# Altium footprint library Pin28_PCB_Library.PcbLib: 29 footprints (part 2 of 2)
Each footprint in its own frame and in the unit in brackets; x right, y up, seen from the top. Pads: shape width x height; smd on the part's side, far side on the other; paste and mask are expansions set on the pad; w line width, h text height; cw(c..) or ccw(c..) is an arc to the next point about the centre after c.
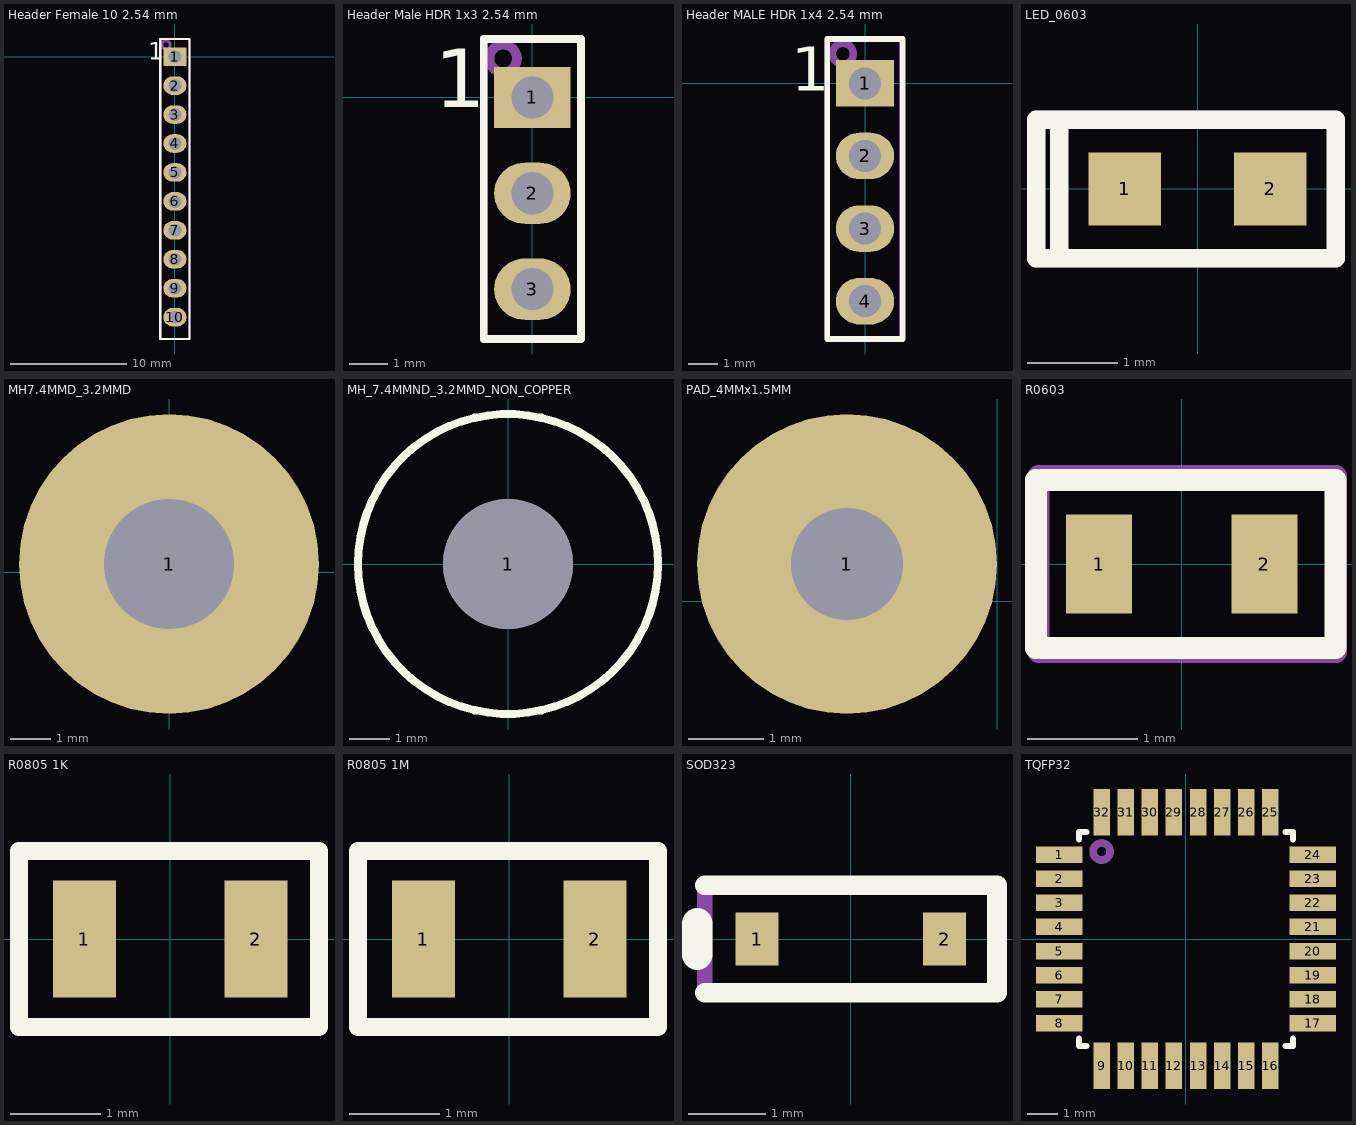
[diagram p1: the footprints below, top view; thin cyan lines are the x and y axes]

## Header Female 10 2.54 mm [mm]
pads (10):
  rect 2x1.6 hole 1.1: 1(0,0)
  oval 2x1.6 hole 1.1: 2(0,-2.5) 3(0,-5) 4(0,-7.5) 5(0,-10) 6(0,-12.5) 7(0,-15) 8(0,-17.5) 9(0,-20) 10(0,-22.5)
Top Overlay:
  lines w0.2: -1.27,-24.384 1.27,-24.384 1.27,1.524 -1.27,1.524 -1.27,-24.384
  text "1" at -2.286,-0.254 h1.52
Mechanical 29:
  circle w0.254: c-0.762,1.016 r0.359
  lines w0.2: -1.27,-24.384 -1.27,1.524 1.27,1.524 1.27,-24.384 -1.27,-24.384
  text "'.Designator'" at 3.556,-15.494 h1.52
3D body "m20-7821046_asm.stp": height 9, standoff -2.5, extent -1.23,-24.33 1.27,1.47

## Header Male HDR 1x3 2.54 mm [mm]
pads (3):
  rect 2x1.6 hole 1.1: 1(0,0)
  oval 2x1.6 hole 1.1: 2(0,-2.5) 3(0,-5)
Top Overlay:
  lines w0.2: -1.27,-6.3 1.27,-6.3 1.27,1.524 -1.27,1.524 -1.27,-6.3
  text "1" at -2.54,-0.254 h1.52
Mechanical 29:
  circle w0.254: c-0.762,1.016 r0.359
  lines w0.2: -1.27,-6.3 -1.27,1.524 1.27,1.524 1.27,-6.3 -1.27,-6.3
  text "'.Designator'" at 0.456,-3.694 h1.52
3D body "User Library-1x3 TH Pitch 2_54mm.STEP": height 9.2, standoff -3.5, extent -1.27,-6.21 1.27,1.41

## Header MALE HDR 1x4 2.54 mm [mm]
pads (4):
  rect 2x1.6 hole 1.1: 1(0,0)
  oval 2x1.6 hole 1.1: 2(0,-2.5) 3(0,-5) 4(0,-7.5)
Top Overlay:
  lines w0.2: -1.3,-8.8 -1.3,1.524 1.3,1.524 1.3,-8.8 -1.3,-8.8
  text "1" at -2.54,-0.254 h1.52
Mechanical 29:
  circle w0.254: c-0.762,1.016 r0.359
  lines w0.2: -1.3,-8.8 1.27,-8.8 1.27,1.524 -1.3,1.524 -1.3,-8.8
  text "'.Designator'" at 3.156,-8.694 h1.52
3D body "User Library-1x4 TH Pitch 2_54mm.STEP": height 9.2, standoff -3.5, extent -1.3,-8.68 1.24,1.48

## LED_0603 [mm]
pads (2):
  rect 0.8x0.8 smd: 1(-0.8,0) 2(0.8,0)
Top Overlay:
  lines w0.2: -1.522,-0.762 -1.522,0 -1.522,0.762 ; -1.522,-0.762 1.522,-0.762 1.522,0.762 -1.522,0.762 ; -1.522,-0.762 -1.776,-0.762 -1.776,0 -1.776,0.762 -1.522,0.762
Mechanical 29:
  lines w0.2: -1.524,-0.762 -1.524,0.762 ; -1.778,-0.762 -1.778,0.762 1.524,0.762 1.524,-0.762 -1.778,-0.762
  text "'.Designator'" at -1.016,-0.254 h0.6
3D body "User Library-LED SMD 0603 super red.step": height 0.65, standoff 0, extent -0.85,-0.4 0.85,0.4
3D body: height 0.67, standoff 0.65, extent -0.254,-0.254 0.254,0.254

## MH7.4MMD_3.2MMD [mm]
pads (1):
  round 7.4 hole 3.2: 1(0,0.2)

## MH_7.4MMND_3.2MMD_NON_COPPER [mm]
pads (1):
  round 3.2 hole 3.2 unplated: 1(0,0)
Top Overlay:
  circle w0.2: c0,0 r3.7

## PAD_4MMx1.5MM [mm]
pads (1):
  round 4 hole 1.5: 1(-2,0.5)

## PCBComponent_1 [mm]

## R0603 [mm]
pads (2):
  rect 0.6x0.9 smd: 1(-0.75,0) 2(0.75,0)
Top Overlay:
  lines w0.2: -1.322,-0.762 -1.322,0 -1.322,0.762 ; -1.27,-0.762 1.397,-0.762 1.397,0.762 -1.27,0.762
Mechanical 29:
  lines w0.2: -1.3,-0.8 -1.3,0.8 1.4,0.8 1.4,-0.8 -1.3,-0.8
  text "'.Designator'" at -1,-0.3 h0.6
3D body "R0603.step": height 0.4, standoff -0.4, extent -0.8,-0.42 0.8,0.42

## R0805 1K [mm]
pads (2):
  rect 0.7x1.3 smd: 1(-0.95,0) 2(0.95,0)
Top Overlay:
  lines w0.2: -1.675,-0.975 -1.675,0.075 -1.675,0.975 1.65,0.975 1.65,-0.975 -1.675,-0.975
Mechanical 29:
  lines w0.2: -1.675,-0.975 -1.675,0.975 1.65,0.975 1.65,-0.95 1.625,-0.975 -1.675,-0.975
3D body "crs0805-fx-1004elf.stp": height 0.55, standoff 0.05, extent -1.05,-0.6 0.95,0.6

## R0805 1M [mm]
pads (2):
  rect 0.7x1.3 smd: 1(-0.95,0) 2(0.95,0)
Top Overlay:
  lines w0.2: -1.675,-0.975 1.65,-0.975 1.65,0.975 -1.675,0.975 -1.675,0.075 -1.675,-0.975
Mechanical 29:
  lines w0.2: -1.675,-0.975 1.625,-0.975 1.65,-0.95 1.65,0.975 -1.675,0.975 -1.675,-0.975
3D body "crs0805-fx-1004elf.stp": height 0.55, standoff 0.05, extent -1.05,-0.6 0.95,0.6

## SOD323 [mil]
pads (2):
  rect 22x27 smd: 1(-48,0) 2(48,0)
Top Overlay:
  lines w10: -74.8,-27.56 74.8,-27.56 74.8,27.56 -74.8,27.56
  lines w15.75: -78.74,-7.87 -78.74,7.87
Mechanical 29:
  lines w7.87: -74.8,-27.56 74.8,-27.56 74.8,27.56 -74.8,27.56 -74.8,-27.56
3D body "User Library-SOD-323.step": height 43.41, standoff 0, extent -51.18,-26.57 51.19,26.58

## TQFP32 [mm]
pads (32):
  rect 1.55x0.55 smd mask+0.06: 1(-4.2,2.8) 2(-4.2,2) 3(-4.2,1.2) 4(-4.2,0.4) 5(-4.2,-0.4) 6(-4.2,-1.2) 7(-4.2,-2) 8(-4.2,-2.8) 17(4.2,-2.8) 18(4.2,-2) 19(4.2,-1.2) 20(4.2,-0.4) 21(4.2,0.4) 22(4.2,1.2) 23(4.2,2) 24(4.2,2.8)
  rect 0.55x1.55 smd mask+0.06: 9(-2.8,-4.2) 10(-2,-4.2) 11(-1.2,-4.2) 12(-0.4,-4.2) 13(0.4,-4.2) 14(1.2,-4.2) 15(2,-4.2) 16(2.8,-4.2) 25(2.8,4.2) 26(2,4.2) 27(1.2,4.2) 28(0.4,4.2) 29(-0.4,4.2) 30(-1.2,4.2) 31(-2,4.2) 32(-2.8,4.2)
Top Overlay:
  lines w0.2: -3.556,3.302 -3.556,3.556 ; -3.302,-3.556 -3.556,-3.556 ; 3.302,-3.556 3.556,-3.556 ; 3.302,3.556 3.556,3.556 ; -3.556,-3.556 -3.556,-3.302 -3.556,-3.556 ; -3.556,3.556 -3.302,3.556 -3.556,3.556 ; 3.556,-3.556 3.556,-3.302 3.556,-3.556 ; 3.556,3.556 3.556,3.302 3.556,3.556
Mechanical 29:
  circle w0.254: c-2.8,2.9 r0.283
  text "'.Designator'" at -0.5,-0.4 h0.8
3D body "User Library-tqfp32.step": height 1.2, standoff 0, extent -4.599,-4.572 4.599,4.627